# Altium integrated library SIM5060-6-0-26-01-X_REVC.IntLib: 1 symbol
Pins are listed as number, name and electrical type; pins without a type are passive.

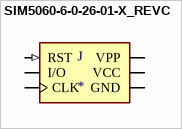
[diagram p0: symbol SIM5060-6-0-26-01-X_REVC]

## SIM5060-6-0-26-01-X_REVC
designator J
SIM Card Connector, Hinged Type 6 Pin, SMT, 2.6mm Profile, Optional Locating Post; MP: SIM5060-6-0-26-01-X; MF: Global Connector Technology; Availability: Unavailable; Package: None; Value: *; Price: None; SnapEDA_Link: https://www.snapeda.com/parts/SIM5060-6-0-26-01-X/Global%20Connector%20Technology/view-part/779299/?ref=snap
footprint GCT_SIM5060-6-0-26-01-X_REVC
pins: C1 VCC (power), C2 RST (in), C3 CLK (io), C5 GND (power), C6 VPP (power), C7 I/O (io)